# Altium footprint library Motorola Footprints.PcbLib: 408 footprints (part 14 of 26)
Each footprint in its own frame and in the unit in brackets; x right, y up, seen from the top. Pads: shape width x height; smd on the part's side, far side on the other; paste and mask are expansions set on the pad; w line width, h text height; cw(c..) or ccw(c..) is an arc to the next point about the centre after c.
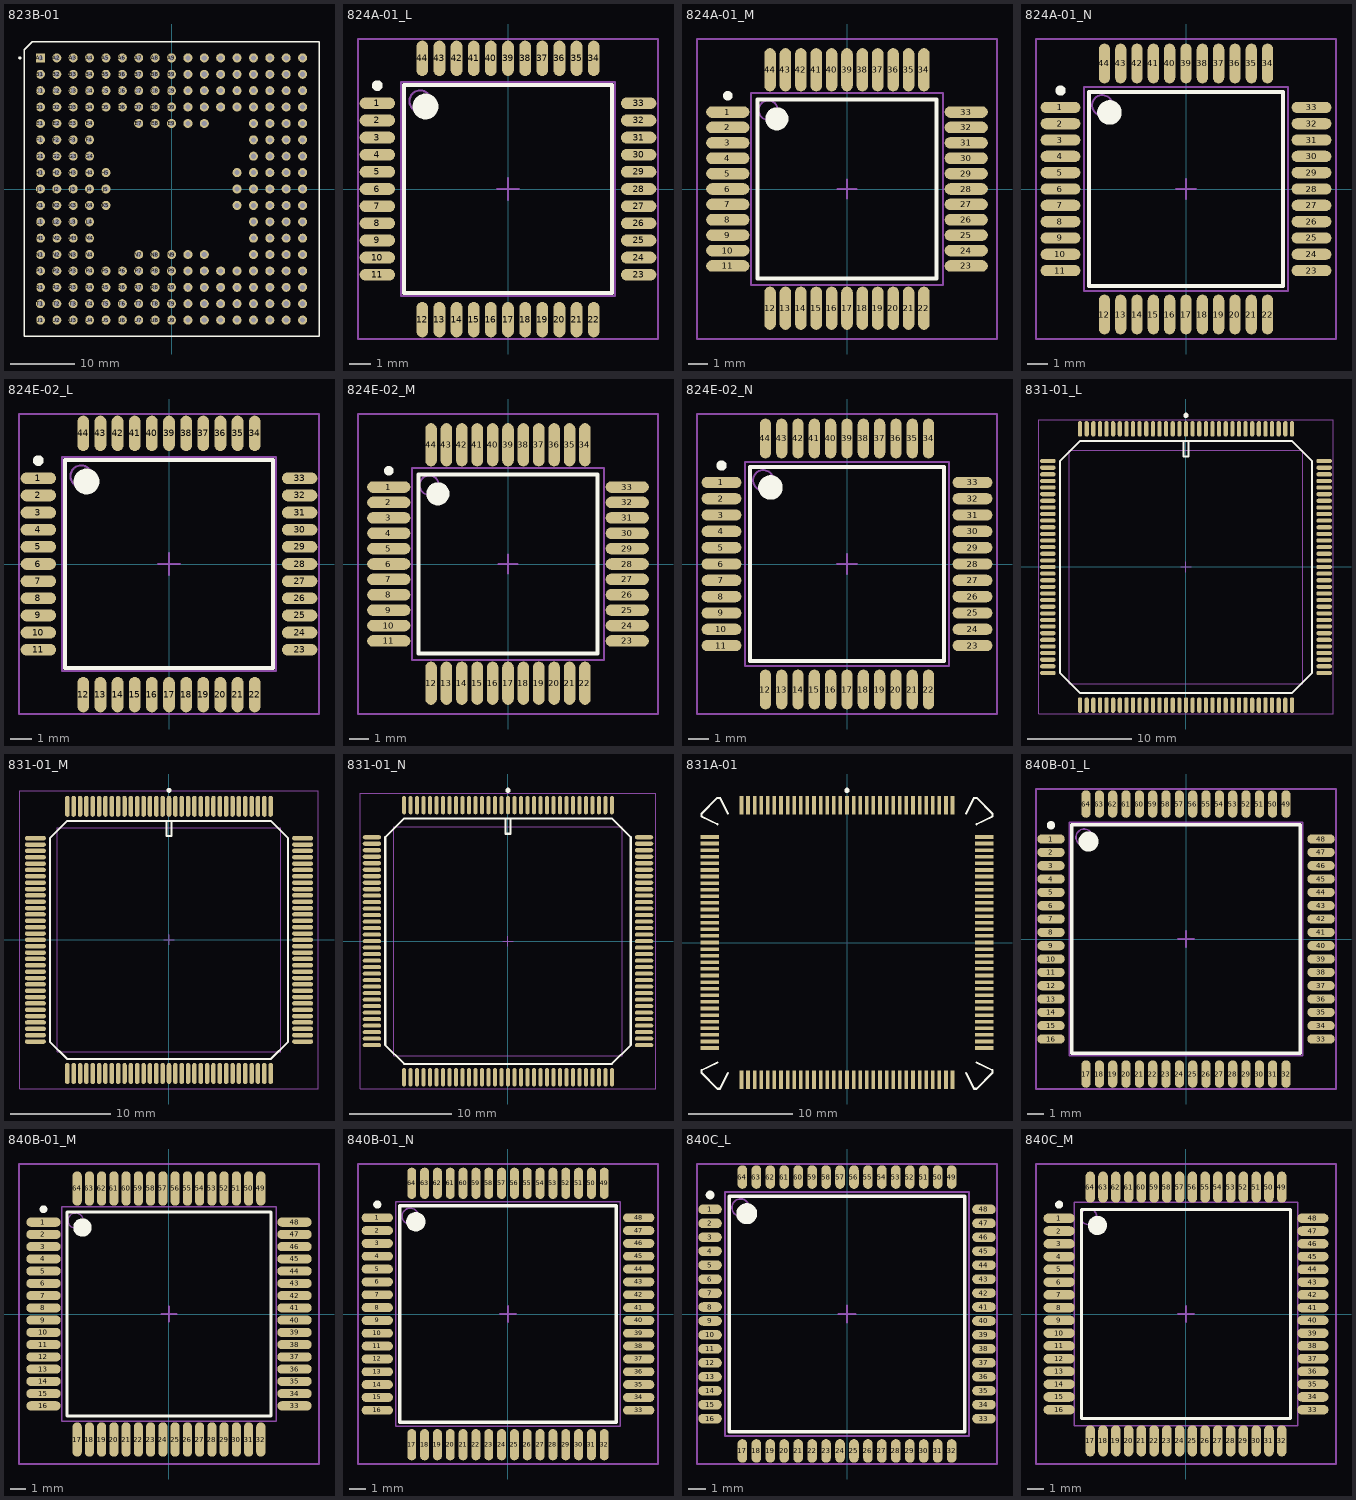
[diagram p13: the footprints below, top view; thin cyan lines are the x and y axes]

## 823B-01 [mm] "224-Pin Pin Grid Array 2.54 mm Pitch"
height 4.5
pads (224):
  rect 1.4x1.4 hole 0.8: A1(-20.32,20.32)
  round 1.4 hole 0.8: A2(-17.78,20.32) A3(-15.24,20.32) A4(-12.7,20.32) A5(-10.16,20.32) A6(-7.62,20.32) A7(-5.08,20.32) A8(-2.54,20.32) A9(0,20.32) A10(2.54,20.32) A11(5.08,20.32) A12(7.62,20.32) A13(10.16,20.32) A14(12.7,20.32) A15(15.24,20.32) A16(17.78,20.32) A17(20.32,20.32) B1(-20.32,17.78) B2(-17.78,17.78) B3(-15.24,17.78) B4(-12.7,17.78) B5(-10.16,17.78) B6(-7.62,17.78) B7(-5.08,17.78) B8(-2.54,17.78) B9(0,17.78) B10(2.54,17.78) B11(5.08,17.78) B12(7.62,17.78) B13(10.16,17.78) B14(12.7,17.78) B15(15.24,17.78) B16(17.78,17.78) B17(20.32,17.78) C1(-20.32,15.24) C2(-17.78,15.24) C3(-15.24,15.24) C4(-12.7,15.24) C5(-10.16,15.24) C6(-7.62,15.24) C7(-5.08,15.24) C8(-2.54,15.24) C9(0,15.24) C10(2.54,15.24) C11(5.08,15.24) C12(7.62,15.24) C13(10.16,15.24) C14(12.7,15.24) C15(15.24,15.24) C16(17.78,15.24) C17(20.32,15.24) D1(-20.32,12.7) D2(-17.78,12.7) D3(-15.24,12.7) D4(-12.7,12.7) D5(-10.16,12.7) D6(-7.62,12.7) D7(-5.08,12.7) D8(-2.54,12.7) D9(0,12.7) D10(2.54,12.7) D11(5.08,12.7) D12(7.62,12.7) D13(10.16,12.7) D14(12.7,12.7) D15(15.24,12.7) D16(17.78,12.7) D17(20.32,12.7) E1(-20.32,10.16) E2(-17.78,10.16) E3(-15.24,10.16) E4(-12.7,10.16) E7(-5.08,10.16) E8(-2.54,10.16) E9(0,10.16) E10(2.54,10.16) E11(5.08,10.16) E14(12.7,10.16) E15(15.24,10.16) E16(17.78,10.16) E17(20.32,10.16) F1(-20.32,7.62) F2(-17.78,7.62) F3(-15.24,7.62) F4(-12.7,7.62) F14(12.7,7.62) F15(15.24,7.62) F16(17.78,7.62) F17(20.32,7.62) G1(-20.32,5.08) G2(-17.78,5.08) G3(-15.24,5.08) G4(-12.7,5.08) G14(12.7,5.08) G15(15.24,5.08) G16(17.78,5.08) G17(20.32,5.08) H1(-20.32,2.54) H2(-17.78,2.54) H3(-15.24,2.54) H4(-12.7,2.54) H5(-10.16,2.54) H13(10.16,2.54) H14(12.7,2.54) H15(15.24,2.54) H16(17.78,2.54) H17(20.32,2.54) J1(-20.32,0) J2(-17.78,0) J3(-15.24,0) J4(-12.7,0) J5(-10.16,0) J13(10.16,0) J14(12.7,0) J15(15.24,0) J16(17.78,0) J17(20.32,0) K1(-20.32,-2.54) K2(-17.78,-2.54) K3(-15.24,-2.54) K4(-12.7,-2.54) K5(-10.16,-2.54) K13(10.16,-2.54) K14(12.7,-2.54) K15(15.24,-2.54) K16(17.78,-2.54) K17(20.32,-2.54) L1(-20.32,-5.08) L2(-17.78,-5.08) L3(-15.24,-5.08) L4(-12.7,-5.08) L14(12.7,-5.08) L15(15.24,-5.08) L16(17.78,-5.08) L17(20.32,-5.08) M1(-20.32,-7.62) M2(-17.78,-7.62) M3(-15.24,-7.62) M4(-12.7,-7.62) M14(12.7,-7.62) M15(15.24,-7.62) M16(17.78,-7.62) M17(20.32,-7.62) N1(-20.32,-10.16) N2(-17.78,-10.16) N3(-15.24,-10.16) N4(-12.7,-10.16) N7(-5.08,-10.16) N8(-2.54,-10.16) N9(0,-10.16) N10(2.54,-10.16) N11(5.08,-10.16) N14(12.7,-10.16) N15(15.24,-10.16) N16(17.78,-10.16) N17(20.32,-10.16) P1(-20.32,-12.7) P2(-17.78,-12.7) P3(-15.24,-12.7) P4(-12.7,-12.7) P5(-10.16,-12.7) P6(-7.62,-12.7) P7(-5.08,-12.7) P8(-2.54,-12.7) P9(0,-12.7) P10(2.54,-12.7) P11(5.08,-12.7) P12(7.62,-12.7) P13(10.16,-12.7) P14(12.7,-12.7) P15(15.24,-12.7) P16(17.78,-12.7) P17(20.32,-12.7) R1(-20.32,-15.24) R2(-17.78,-15.24) R3(-15.24,-15.24) R4(-12.7,-15.24) R5(-10.16,-15.24) R6(-7.62,-15.24) R7(-5.08,-15.24) R8(-2.54,-15.24) R9(0,-15.24) R10(2.54,-15.24) R11(5.08,-15.24) R12(7.62,-15.24) R13(10.16,-15.24) R14(12.7,-15.24) R15(15.24,-15.24) R16(17.78,-15.24) R17(20.32,-15.24) T1(-20.32,-17.78) T2(-17.78,-17.78) T3(-15.24,-17.78) T4(-12.7,-17.78) T5(-10.16,-17.78) T6(-7.62,-17.78) T7(-5.08,-17.78) T8(-2.54,-17.78) T9(0,-17.78) T10(2.54,-17.78) T11(5.08,-17.78) T12(7.62,-17.78) T13(10.16,-17.78) T14(12.7,-17.78) T15(15.24,-17.78) T16(17.78,-17.78) T17(20.32,-17.78) U1(-20.32,-20.32) U2(-17.78,-20.32) U3(-15.24,-20.32) U4(-12.7,-20.32) U5(-10.16,-20.32) U6(-7.62,-20.32) U7(-5.08,-20.32) U8(-2.54,-20.32) U9(0,-20.32) U10(2.54,-20.32) U11(5.08,-20.32) U12(7.62,-20.32) U13(10.16,-20.32) U14(12.7,-20.32) U15(15.24,-20.32) U16(17.78,-20.32) U17(20.32,-20.32)
Top Overlay:
  circle w0.25: c-23.51,20.32 r0.125
  lines w0.2: -22.86,-22.86 -22.86,21.59 -21.59,22.86 22.86,22.86 22.86,-22.86 -22.86,-22.86

## 824A-01_L [mm] "44-Pin Quad Flat Pack 0.8 mm Pitch, IPC High Density"
height 2.45
pads (44):
  oval 1.65x0.55 smd: 1(-6.1,4) 2(-6.1,3.2) 3(-6.1,2.4) 4(-6.1,1.6) 5(-6.1,0.8) 6(-6.1,0) 7(-6.1,-0.8) 8(-6.1,-1.6) 9(-6.1,-2.4) 10(-6.1,-3.2) 11(-6.1,-4) 23(6.1,-4) 24(6.1,-3.2) 25(6.1,-2.4) 26(6.1,-1.6) 27(6.1,-0.8) 28(6.1,0) 29(6.1,0.8) 30(6.1,1.6) 31(6.1,2.4) 32(6.1,3.2) 33(6.1,4)
  oval 0.55x1.65 smd: 12(-4,-6.1) 13(-3.2,-6.1) 14(-2.4,-6.1) 15(-1.6,-6.1) 16(-0.8,-6.1) 17(0,-6.1) 18(0.8,-6.1) 19(1.6,-6.1) 20(2.4,-6.1) 21(3.2,-6.1) 22(4,-6.1) 34(4,6.1) 35(3.2,6.1) 36(2.4,6.1) 37(1.6,6.1) 38(0.8,6.1) 39(0,6.1) 40(-0.8,6.1) 41(-1.6,6.1) 42(-2.4,6.1) 43(-3.2,6.1) 44(-4,6.1)
Top Overlay:
  circle w0.6: c-3.85,3.85 r0.3
  circle w0.25: c-6.1,4.825 r0.125
  lines w0.2: -4.85,-4.85 4.85,-4.85 4.85,4.85 -4.85,4.85 -4.85,-4.85
Mechanical 13:
  circle w0.1: c-4.1,4.1 r0.5
  lines w0.1: -5,-5 5,-5 5,5 -5,5 -5,-5
Mechanical 15:
  lines w0.1: -0.5,0 0.5,0 ; 0,-0.5 0,0.5 ; -7,-7 7,-7 7,7 -7,7 -7,-7
3D body: height 2.45, standoff 0, extent -5,-5 5,5

## 824A-01_M [mm] "44-Pin Quad Flat Pack 0.8 mm Pitch, IPC Low Density"
height 2.45
pads (44):
  oval 2.25x0.6 smd: 1(-6.2,4) 2(-6.2,3.2) 3(-6.2,2.4) 4(-6.2,1.6) 5(-6.2,0.8) 6(-6.2,0) 7(-6.2,-0.8) 8(-6.2,-1.6) 9(-6.2,-2.4) 10(-6.2,-3.2) 11(-6.2,-4) 23(6.2,-4) 24(6.2,-3.2) 25(6.2,-2.4) 26(6.2,-1.6) 27(6.2,-0.8) 28(6.2,0) 29(6.2,0.8) 30(6.2,1.6) 31(6.2,2.4) 32(6.2,3.2) 33(6.2,4)
  oval 0.6x2.25 smd: 12(-4,-6.2) 13(-3.2,-6.2) 14(-2.4,-6.2) 15(-1.6,-6.2) 16(-0.8,-6.2) 17(0,-6.2) 18(0.8,-6.2) 19(1.6,-6.2) 20(2.4,-6.2) 21(3.2,-6.2) 22(4,-6.2) 34(4,6.2) 35(3.2,6.2) 36(2.4,6.2) 37(1.6,6.2) 38(0.8,6.2) 39(0,6.2) 40(-0.8,6.2) 41(-1.6,6.2) 42(-2.4,6.2) 43(-3.2,6.2) 44(-4,6.2)
Top Overlay:
  circle w0.6: c-3.65,3.65 r0.3
  circle w0.25: c-6.2,4.85 r0.125
  lines w0.2: -4.65,-4.65 4.65,-4.65 4.65,4.65 -4.65,4.65 -4.65,-4.65
Mechanical 13:
  circle w0.1: c-4.1,4.1 r0.5
  lines w0.1: -5,-5 5,-5 5,5 -5,5 -5,-5
Mechanical 15:
  lines w0.1: -0.5,0 0.5,0 ; 0,-0.5 0,0.5 ; -7.8,-7.8 7.8,-7.8 7.8,7.8 -7.8,7.8 -7.8,-7.8
3D body: height 2.45, standoff 0, extent -5,-5 5,5

## 824A-01_N [mm] "44-Pin Quad Flat Pack 0.8 mm Pitch, IPC Medium Density"
height 2.45
pads (44):
  oval 1.95x0.55 smd: 1(-6.15,4) 2(-6.15,3.2) 3(-6.15,2.4) 4(-6.15,1.6) 5(-6.15,0.8) 6(-6.15,0) 7(-6.15,-0.8) 8(-6.15,-1.6) 9(-6.15,-2.4) 10(-6.15,-3.2) 11(-6.15,-4) 23(6.15,-4) 24(6.15,-3.2) 25(6.15,-2.4) 26(6.15,-1.6) 27(6.15,-0.8) 28(6.15,0) 29(6.15,0.8) 30(6.15,1.6) 31(6.15,2.4) 32(6.15,3.2) 33(6.15,4)
  oval 0.55x1.95 smd: 12(-4,-6.15) 13(-3.2,-6.15) 14(-2.4,-6.15) 15(-1.6,-6.15) 16(-0.8,-6.15) 17(0,-6.15) 18(0.8,-6.15) 19(1.6,-6.15) 20(2.4,-6.15) 21(3.2,-6.15) 22(4,-6.15) 34(4,6.15) 35(3.2,6.15) 36(2.4,6.15) 37(1.6,6.15) 38(0.8,6.15) 39(0,6.15) 40(-0.8,6.15) 41(-1.6,6.15) 42(-2.4,6.15) 43(-3.2,6.15) 44(-4,6.15)
Top Overlay:
  circle w0.6: c-3.75,3.75 r0.3
  circle w0.25: c-6.15,4.825 r0.125
  lines w0.2: -4.75,-4.75 4.75,-4.75 4.75,4.75 -4.75,4.75 -4.75,-4.75
Mechanical 13:
  circle w0.1: c-4.1,4.1 r0.5
  lines w0.1: -5,-5 5,-5 5,5 -5,5 -5,-5
Mechanical 15:
  lines w0.1: -0.5,0 0.5,0 ; 0,-0.5 0,0.5 ; -7.35,-7.35 7.35,-7.35 7.35,7.35 -7.35,7.35 -7.35,-7.35
3D body: height 2.45, standoff 0, extent -5,-5 5,5

## 824E-02_L [mm] "44-Pin Plastic Quad Flat Pack 0.8 mm Pitch, IPC High Density"
height 2.21
pads (44):
  oval 1.65x0.55 smd: 1(-6.1,4) 2(-6.1,3.2) 3(-6.1,2.4) 4(-6.1,1.6) 5(-6.1,0.8) 6(-6.1,0) 7(-6.1,-0.8) 8(-6.1,-1.6) 9(-6.1,-2.4) 10(-6.1,-3.2) 11(-6.1,-4) 23(6.1,-4) 24(6.1,-3.2) 25(6.1,-2.4) 26(6.1,-1.6) 27(6.1,-0.8) 28(6.1,0) 29(6.1,0.8) 30(6.1,1.6) 31(6.1,2.4) 32(6.1,3.2) 33(6.1,4)
  oval 0.55x1.65 smd: 12(-4,-6.1) 13(-3.2,-6.1) 14(-2.4,-6.1) 15(-1.6,-6.1) 16(-0.8,-6.1) 17(0,-6.1) 18(0.8,-6.1) 19(1.6,-6.1) 20(2.4,-6.1) 21(3.2,-6.1) 22(4,-6.1) 34(4,6.1) 35(3.2,6.1) 36(2.4,6.1) 37(1.6,6.1) 38(0.8,6.1) 39(0,6.1) 40(-0.8,6.1) 41(-1.6,6.1) 42(-2.4,6.1) 43(-3.2,6.1) 44(-4,6.1)
Top Overlay:
  circle w0.6: c-3.85,3.85 r0.3
  circle w0.25: c-6.1,4.825 r0.125
  lines w0.2: -4.85,-4.85 4.85,-4.85 4.85,4.85 -4.85,4.85 -4.85,-4.85
Mechanical 13:
  circle w0.1: c-4.1,4.1 r0.5
  lines w0.1: -5,-5 5,-5 5,5 -5,5 -5,-5
Mechanical 15:
  lines w0.1: -0.5,0 0.5,0 ; 0,-0.5 0,0.5 ; -7,-7 7,-7 7,7 -7,7 -7,-7
3D body: height 2.21, standoff 0, extent -5,-5 5,5

## 824E-02_M [mm] "44-Pin Plastic Quad Flat Pack 0.8 mm Pitch, IPC Low Density"
height 2.21
pads (44):
  oval 2.25x0.6 smd: 1(-6.2,4) 2(-6.2,3.2) 3(-6.2,2.4) 4(-6.2,1.6) 5(-6.2,0.8) 6(-6.2,0) 7(-6.2,-0.8) 8(-6.2,-1.6) 9(-6.2,-2.4) 10(-6.2,-3.2) 11(-6.2,-4) 23(6.2,-4) 24(6.2,-3.2) 25(6.2,-2.4) 26(6.2,-1.6) 27(6.2,-0.8) 28(6.2,0) 29(6.2,0.8) 30(6.2,1.6) 31(6.2,2.4) 32(6.2,3.2) 33(6.2,4)
  oval 0.6x2.25 smd: 12(-4,-6.2) 13(-3.2,-6.2) 14(-2.4,-6.2) 15(-1.6,-6.2) 16(-0.8,-6.2) 17(0,-6.2) 18(0.8,-6.2) 19(1.6,-6.2) 20(2.4,-6.2) 21(3.2,-6.2) 22(4,-6.2) 34(4,6.2) 35(3.2,6.2) 36(2.4,6.2) 37(1.6,6.2) 38(0.8,6.2) 39(0,6.2) 40(-0.8,6.2) 41(-1.6,6.2) 42(-2.4,6.2) 43(-3.2,6.2) 44(-4,6.2)
Top Overlay:
  circle w0.6: c-3.65,3.65 r0.3
  circle w0.25: c-6.2,4.85 r0.125
  lines w0.2: -4.65,-4.65 4.65,-4.65 4.65,4.65 -4.65,4.65 -4.65,-4.65
Mechanical 13:
  circle w0.1: c-4.1,4.1 r0.5
  lines w0.1: -5,-5 5,-5 5,5 -5,5 -5,-5
Mechanical 15:
  lines w0.1: -0.5,0 0.5,0 ; 0,-0.5 0,0.5 ; -7.8,-7.8 7.8,-7.8 7.8,7.8 -7.8,7.8 -7.8,-7.8
3D body: height 2.21, standoff 0, extent -5,-5 5,5

## 824E-02_N [mm] "44-Pin Plastic Quad Flat Pack 0.8 mm Pitch, IPC Medium Density"
height 2.21
pads (44):
  oval 1.95x0.55 smd: 1(-6.15,4) 2(-6.15,3.2) 3(-6.15,2.4) 4(-6.15,1.6) 5(-6.15,0.8) 6(-6.15,0) 7(-6.15,-0.8) 8(-6.15,-1.6) 9(-6.15,-2.4) 10(-6.15,-3.2) 11(-6.15,-4) 23(6.15,-4) 24(6.15,-3.2) 25(6.15,-2.4) 26(6.15,-1.6) 27(6.15,-0.8) 28(6.15,0) 29(6.15,0.8) 30(6.15,1.6) 31(6.15,2.4) 32(6.15,3.2) 33(6.15,4)
  oval 0.55x1.95 smd: 12(-4,-6.15) 13(-3.2,-6.15) 14(-2.4,-6.15) 15(-1.6,-6.15) 16(-0.8,-6.15) 17(0,-6.15) 18(0.8,-6.15) 19(1.6,-6.15) 20(2.4,-6.15) 21(3.2,-6.15) 22(4,-6.15) 34(4,6.15) 35(3.2,6.15) 36(2.4,6.15) 37(1.6,6.15) 38(0.8,6.15) 39(0,6.15) 40(-0.8,6.15) 41(-1.6,6.15) 42(-2.4,6.15) 43(-3.2,6.15) 44(-4,6.15)
Top Overlay:
  circle w0.6: c-3.75,3.75 r0.3
  circle w0.25: c-6.15,4.825 r0.125
  lines w0.2: -4.75,-4.75 4.75,-4.75 4.75,4.75 -4.75,4.75 -4.75,-4.75
Mechanical 13:
  circle w0.1: c-4.1,4.1 r0.5
  lines w0.1: -5,-5 5,-5 5,5 -5,5 -5,-5
Mechanical 15:
  lines w0.1: -0.5,0 0.5,0 ; 0,-0.5 0,0.5 ; -7.35,-7.35 7.35,-7.35 7.35,7.35 -7.35,7.35 -7.35,-7.35
3D body: height 2.21, standoff 0, extent -5,-5 5,5

## 831-01_L [mm] "132-Pin Ceramic Quad Flat Pack 0.635 mm Pitch, IPC High Density"
height 4.4
pads (132):
  oval 0.4x1.5 smd: 1(0,13.25) 2(-0.635,13.25) 3(-1.27,13.25) 4(-1.905,13.25) 5(-2.54,13.25) 6(-3.175,13.25) 7(-3.81,13.25) 8(-4.445,13.25) 9(-5.08,13.25) 10(-5.715,13.25) 11(-6.35,13.25) 12(-6.985,13.25) 13(-7.62,13.25) 14(-8.255,13.25) 15(-8.89,13.25) 16(-9.525,13.25) 17(-10.16,13.25) 51(-10.16,-13.25) 52(-9.525,-13.25) 53(-8.89,-13.25) 54(-8.255,-13.25) 55(-7.62,-13.25) 56(-6.985,-13.25) 57(-6.35,-13.25) 58(-5.715,-13.25) 59(-5.08,-13.25) 60(-4.445,-13.25) 61(-3.81,-13.25) 62(-3.175,-13.25) 63(-2.54,-13.25) 64(-1.905,-13.25) 65(-1.27,-13.25) 66(-0.635,-13.25) 67(0,-13.25) 68(0.635,-13.25) 69(1.27,-13.25) 70(1.905,-13.25) 71(2.54,-13.25) 72(3.175,-13.25) 73(3.81,-13.25) 74(4.445,-13.25) 75(5.08,-13.25) 76(5.715,-13.25) 77(6.35,-13.25) 78(6.985,-13.25) 79(7.62,-13.25) 80(8.255,-13.25) 81(8.89,-13.25) 82(9.525,-13.25) 83(10.16,-13.25) 117(10.16,13.25) 118(9.525,13.25) 119(8.89,13.25) 120(8.255,13.25) 121(7.62,13.25) 122(6.985,13.25) 123(6.35,13.25) 124(5.715,13.25) 125(5.08,13.25) 126(4.445,13.25) 127(3.81,13.25) 128(3.175,13.25) 129(2.54,13.25) 130(1.905,13.25) 131(1.27,13.25) 132(0.635,13.25)
  oval 1.5x0.4 smd: 18(-13.25,10.16) 19(-13.25,9.525) 20(-13.25,8.89) 21(-13.25,8.255) 22(-13.25,7.62) 23(-13.25,6.985) 24(-13.25,6.35) 25(-13.25,5.715) 26(-13.25,5.08) 27(-13.25,4.445) 28(-13.25,3.81) 29(-13.25,3.175) 30(-13.25,2.54) 31(-13.25,1.905) 32(-13.25,1.27) 33(-13.25,0.635) 34(-13.25,0) 35(-13.25,-0.635) 36(-13.25,-1.27) 37(-13.25,-1.905) 38(-13.25,-2.54) 39(-13.25,-3.175) 40(-13.25,-3.81) 41(-13.25,-4.445) 42(-13.25,-5.08) 43(-13.25,-5.715) 44(-13.25,-6.35) 45(-13.25,-6.985) 46(-13.25,-7.62) 47(-13.25,-8.255) 48(-13.25,-8.89) 49(-13.25,-9.525) 50(-13.25,-10.16) 84(13.25,-10.16) 85(13.25,-9.525) 86(13.25,-8.89) 87(13.25,-8.255) 88(13.25,-7.62) 89(13.25,-6.985) 90(13.25,-6.35) 91(13.25,-5.715) 92(13.25,-5.08) 93(13.25,-4.445) 94(13.25,-3.81) 95(13.25,-3.175) 96(13.25,-2.54) 97(13.25,-1.905) 98(13.25,-1.27) 99(13.25,-0.635) 100(13.25,0) 101(13.25,0.635) 102(13.25,1.27) 103(13.25,1.905) 104(13.25,2.54) 105(13.25,3.175) 106(13.25,3.81) 107(13.25,4.445) 108(13.25,5.08) 109(13.25,5.715) 110(13.25,6.35) 111(13.25,6.985) 112(13.25,7.62) 113(13.25,8.255) 114(13.25,8.89) 115(13.25,9.525) 116(13.25,10.16)
Top Overlay:
  circle w0.25: c0,14.55 r0.125
  lines w0.2: -0.25,12.1 -0.25,10.6 0.25,10.6 0.25,12.1 ; -12.1,-10.16 -10.16,-12.1 10.16,-12.1 12.1,-10.16 12.1,10.16 10.16,12.1 -10.16,12.1 -12.1,10.16 -12.1,-10.16
Mechanical 13:
  lines w0.1: -11.18,-11.18 11.18,-11.18 11.18,11.18 -11.18,11.18 -11.18,-11.18
Mechanical 15:
  lines w0.1: -0.5,0 0.5,0 ; 0,-0.5 0,0.5 ; -14.1,-14.1 14.1,-14.1 14.1,14.1 -14.1,14.1 -14.1,-14.1
3D body: height 4.4, standoff 0, extent -11.18,-11.18 11.18,11.18

## 831-01_M [mm] "132-Pin Ceramic Quad Flat Pack 0.635 mm Pitch, IPC Low Density"
height 4.4
pads (132):
  oval 0.45x2.1 smd: 1(0,13.35) 2(-0.635,13.35) 3(-1.27,13.35) 4(-1.905,13.35) 5(-2.54,13.35) 6(-3.175,13.35) 7(-3.81,13.35) 8(-4.445,13.35) 9(-5.08,13.35) 10(-5.715,13.35) 11(-6.35,13.35) 12(-6.985,13.35) 13(-7.62,13.35) 14(-8.255,13.35) 15(-8.89,13.35) 16(-9.525,13.35) 17(-10.16,13.35) 51(-10.16,-13.35) 52(-9.525,-13.35) 53(-8.89,-13.35) 54(-8.255,-13.35) 55(-7.62,-13.35) 56(-6.985,-13.35) 57(-6.35,-13.35) 58(-5.715,-13.35) 59(-5.08,-13.35) 60(-4.445,-13.35) 61(-3.81,-13.35) 62(-3.175,-13.35) 63(-2.54,-13.35) 64(-1.905,-13.35) 65(-1.27,-13.35) 66(-0.635,-13.35) 67(0,-13.35) 68(0.635,-13.35) 69(1.27,-13.35) 70(1.905,-13.35) 71(2.54,-13.35) 72(3.175,-13.35) 73(3.81,-13.35) 74(4.445,-13.35) 75(5.08,-13.35) 76(5.715,-13.35) 77(6.35,-13.35) 78(6.985,-13.35) 79(7.62,-13.35) 80(8.255,-13.35) 81(8.89,-13.35) 82(9.525,-13.35) 83(10.16,-13.35) 117(10.16,13.35) 118(9.525,13.35) 119(8.89,13.35) 120(8.255,13.35) 121(7.62,13.35) 122(6.985,13.35) 123(6.35,13.35) 124(5.715,13.35) 125(5.08,13.35) 126(4.445,13.35) 127(3.81,13.35) 128(3.175,13.35) 129(2.54,13.35) 130(1.905,13.35) 131(1.27,13.35) 132(0.635,13.35)
  oval 2.1x0.45 smd: 18(-13.35,10.16) 19(-13.35,9.525) 20(-13.35,8.89) 21(-13.35,8.255) 22(-13.35,7.62) 23(-13.35,6.985) 24(-13.35,6.35) 25(-13.35,5.715) 26(-13.35,5.08) 27(-13.35,4.445) 28(-13.35,3.81) 29(-13.35,3.175) 30(-13.35,2.54) 31(-13.35,1.905) 32(-13.35,1.27) 33(-13.35,0.635) 34(-13.35,0) 35(-13.35,-0.635) 36(-13.35,-1.27) 37(-13.35,-1.905) 38(-13.35,-2.54) 39(-13.35,-3.175) 40(-13.35,-3.81) 41(-13.35,-4.445) 42(-13.35,-5.08) 43(-13.35,-5.715) 44(-13.35,-6.35) 45(-13.35,-6.985) 46(-13.35,-7.62) 47(-13.35,-8.255) 48(-13.35,-8.89) 49(-13.35,-9.525) 50(-13.35,-10.16) 84(13.35,-10.16) 85(13.35,-9.525) 86(13.35,-8.89) 87(13.35,-8.255) 88(13.35,-7.62) 89(13.35,-6.985) 90(13.35,-6.35) 91(13.35,-5.715) 92(13.35,-5.08) 93(13.35,-4.445) 94(13.35,-3.81) 95(13.35,-3.175) 96(13.35,-2.54) 97(13.35,-1.905) 98(13.35,-1.27) 99(13.35,-0.635) 100(13.35,0) 101(13.35,0.635) 102(13.35,1.27) 103(13.35,1.905) 104(13.35,2.54) 105(13.35,3.175) 106(13.35,3.81) 107(13.35,4.445) 108(13.35,5.08) 109(13.35,5.715) 110(13.35,6.35) 111(13.35,6.985) 112(13.35,7.62) 113(13.35,8.255) 114(13.35,8.89) 115(13.35,9.525) 116(13.35,10.16)
Top Overlay:
  circle w0.25: c0,14.95 r0.125
  lines w0.2: -0.25,11.9 -0.25,10.4 0.25,10.4 0.25,11.9 ; -11.9,-10.16 -10.16,-11.9 10.16,-11.9 11.9,-10.16 11.9,10.16 10.16,11.9 -10.16,11.9 -11.9,10.16 -11.9,-10.16
Mechanical 13:
  lines w0.1: -11.18,-11.18 11.18,-11.18 11.18,11.18 -11.18,11.18 -11.18,-11.18
Mechanical 15:
  lines w0.1: -0.5,0 0.5,0 ; 0,-0.5 0,0.5 ; -14.9,-14.9 14.9,-14.9 14.9,14.9 -14.9,14.9 -14.9,-14.9
3D body: height 4.4, standoff 0, extent -11.18,-11.18 11.18,11.18

## 831-01_N [mm] "132-Pin Ceramic Quad Flat Pack 0.635 mm Pitch, IPC Medium Density"
height 4.4
pads (132):
  oval 0.4x1.8 smd: 1(0,13.3) 2(-0.635,13.3) 3(-1.27,13.3) 4(-1.905,13.3) 5(-2.54,13.3) 6(-3.175,13.3) 7(-3.81,13.3) 8(-4.445,13.3) 9(-5.08,13.3) 10(-5.715,13.3) 11(-6.35,13.3) 12(-6.985,13.3) 13(-7.62,13.3) 14(-8.255,13.3) 15(-8.89,13.3) 16(-9.525,13.3) 17(-10.16,13.3) 51(-10.16,-13.3) 52(-9.525,-13.3) 53(-8.89,-13.3) 54(-8.255,-13.3) 55(-7.62,-13.3) 56(-6.985,-13.3) 57(-6.35,-13.3) 58(-5.715,-13.3) 59(-5.08,-13.3) 60(-4.445,-13.3) 61(-3.81,-13.3) 62(-3.175,-13.3) 63(-2.54,-13.3) 64(-1.905,-13.3) 65(-1.27,-13.3) 66(-0.635,-13.3) 67(0,-13.3) 68(0.635,-13.3) 69(1.27,-13.3) 70(1.905,-13.3) 71(2.54,-13.3) 72(3.175,-13.3) 73(3.81,-13.3) 74(4.445,-13.3) 75(5.08,-13.3) 76(5.715,-13.3) 77(6.35,-13.3) 78(6.985,-13.3) 79(7.62,-13.3) 80(8.255,-13.3) 81(8.89,-13.3) 82(9.525,-13.3) 83(10.16,-13.3) 117(10.16,13.3) 118(9.525,13.3) 119(8.89,13.3) 120(8.255,13.3) 121(7.62,13.3) 122(6.985,13.3) 123(6.35,13.3) 124(5.715,13.3) 125(5.08,13.3) 126(4.445,13.3) 127(3.81,13.3) 128(3.175,13.3) 129(2.54,13.3) 130(1.905,13.3) 131(1.27,13.3) 132(0.635,13.3)
  oval 1.8x0.4 smd: 18(-13.3,10.16) 19(-13.3,9.525) 20(-13.3,8.89) 21(-13.3,8.255) 22(-13.3,7.62) 23(-13.3,6.985) 24(-13.3,6.35) 25(-13.3,5.715) 26(-13.3,5.08) 27(-13.3,4.445) 28(-13.3,3.81) 29(-13.3,3.175) 30(-13.3,2.54) 31(-13.3,1.905) 32(-13.3,1.27) 33(-13.3,0.635) 34(-13.3,0) 35(-13.3,-0.635) 36(-13.3,-1.27) 37(-13.3,-1.905) 38(-13.3,-2.54) 39(-13.3,-3.175) 40(-13.3,-3.81) 41(-13.3,-4.445) 42(-13.3,-5.08) 43(-13.3,-5.715) 44(-13.3,-6.35) 45(-13.3,-6.985) 46(-13.3,-7.62) 47(-13.3,-8.255) 48(-13.3,-8.89) 49(-13.3,-9.525) 50(-13.3,-10.16) 84(13.3,-10.16) 85(13.3,-9.525) 86(13.3,-8.89) 87(13.3,-8.255) 88(13.3,-7.62) 89(13.3,-6.985) 90(13.3,-6.35) 91(13.3,-5.715) 92(13.3,-5.08) 93(13.3,-4.445) 94(13.3,-3.81) 95(13.3,-3.175) 96(13.3,-2.54) 97(13.3,-1.905) 98(13.3,-1.27) 99(13.3,-0.635) 100(13.3,0) 101(13.3,0.635) 102(13.3,1.27) 103(13.3,1.905) 104(13.3,2.54) 105(13.3,3.175) 106(13.3,3.81) 107(13.3,4.445) 108(13.3,5.08) 109(13.3,5.715) 110(13.3,6.35) 111(13.3,6.985) 112(13.3,7.62) 113(13.3,8.255) 114(13.3,8.89) 115(13.3,9.525) 116(13.3,10.16)
Top Overlay:
  circle w0.25: c0,14.75 r0.125
  lines w0.2: -0.25,12 -0.25,10.5 0.25,10.5 0.25,12 ; -12,-10.16 -10.16,-12 10.16,-12 12,-10.16 12,10.16 10.16,12 -10.16,12 -12,10.16 -12,-10.16
Mechanical 13:
  lines w0.1: -11.18,-11.18 11.18,-11.18 11.18,11.18 -11.18,11.18 -11.18,-11.18
Mechanical 15:
  lines w0.1: -0.5,0 0.5,0 ; 0,-0.5 0,0.5 ; -14.45,-14.45 14.45,-14.45 14.45,14.45 -14.45,14.45 -14.45,-14.45
3D body: height 4.4, standoff 0, extent -11.18,-11.18 11.18,11.18

## 831A-01 [mm] "PQFP; 132 Leads; Body 24 x 24 mm; Pitch 0.635 mm"
height 4.57
pads (132):
  rect 0.35x1.8 smd: 1(0,13.2) 2(-0.635,13.2) 3(-1.27,13.2) 4(-1.905,13.2) 5(-2.54,13.2) 6(-3.175,13.2) 7(-3.81,13.2) 8(-4.445,13.2) 9(-5.08,13.2) 10(-5.715,13.2) 11(-6.35,13.2) 12(-6.985,13.2) 13(-7.62,13.2) 14(-8.255,13.2) 15(-8.89,13.2) 16(-9.525,13.2) 17(-10.16,13.2) 51(-10.16,-13.2) 52(-9.525,-13.2) 53(-8.89,-13.2) 54(-8.255,-13.2) 55(-7.62,-13.2) 56(-6.985,-13.2) 57(-6.35,-13.2) 58(-5.715,-13.2) 59(-5.08,-13.2) 60(-4.445,-13.2) 61(-3.81,-13.2) 62(-3.175,-13.2) 63(-2.54,-13.2) 64(-1.905,-13.2) 65(-1.27,-13.2) 66(-0.635,-13.2) 67(0,-13.2) 68(0.635,-13.2) 69(1.27,-13.2) 70(1.905,-13.2) 71(2.54,-13.2) 72(3.175,-13.2) 73(3.81,-13.2) 74(4.445,-13.2) 75(5.08,-13.2) 76(5.715,-13.2) 77(6.35,-13.2) 78(6.985,-13.2) 79(7.62,-13.2) 80(8.255,-13.2) 81(8.89,-13.2) 82(9.525,-13.2) 83(10.16,-13.2) 117(10.16,13.2) 118(9.525,13.2) 119(8.89,13.2) 120(8.255,13.2) 121(7.62,13.2) 122(6.985,13.2) 123(6.35,13.2) 124(5.715,13.2) 125(5.08,13.2) 126(4.445,13.2) 127(3.81,13.2) 128(3.175,13.2) 129(2.54,13.2) 130(1.905,13.2) 131(1.27,13.2) 132(0.635,13.2)
  rect 1.8x0.35 smd: 18(-13.2,10.16) 19(-13.2,9.525) 20(-13.2,8.89) 21(-13.2,8.255) 22(-13.2,7.62) 23(-13.2,6.985) 24(-13.2,6.35) 25(-13.2,5.715) 26(-13.2,5.08) 27(-13.2,4.445) 28(-13.2,3.81) 29(-13.2,3.175) 30(-13.2,2.54) 31(-13.2,1.905) 32(-13.2,1.27) 33(-13.2,0.635) 34(-13.2,0) 35(-13.2,-0.635) 36(-13.2,-1.27) 37(-13.2,-1.905) 38(-13.2,-2.54) 39(-13.2,-3.175) 40(-13.2,-3.81) 41(-13.2,-4.445) 42(-13.2,-5.08) 43(-13.2,-5.715) 44(-13.2,-6.35) 45(-13.2,-6.985) 46(-13.2,-7.62) 47(-13.2,-8.255) 48(-13.2,-8.89) 49(-13.2,-9.525) 50(-13.2,-10.16) 84(13.2,-10.16) 85(13.2,-9.525) 86(13.2,-8.89) 87(13.2,-8.255) 88(13.2,-7.62) 89(13.2,-6.985) 90(13.2,-6.35) 91(13.2,-5.715) 92(13.2,-5.08) 93(13.2,-4.445) 94(13.2,-3.81) 95(13.2,-3.175) 96(13.2,-2.54) 97(13.2,-1.905) 98(13.2,-1.27) 99(13.2,-0.635) 100(13.2,0) 101(13.2,0.635) 102(13.2,1.27) 103(13.2,1.905) 104(13.2,2.54) 105(13.2,3.175) 106(13.2,3.81) 107(13.2,4.445) 108(13.2,5.08) 109(13.2,5.715) 110(13.2,6.35) 111(13.2,6.985) 112(13.2,7.62) 113(13.2,8.255) 114(13.2,8.89) 115(13.2,9.525) 116(13.2,10.16)
Top Overlay:
  circle w0.25: c0,14.65 r0.125
  lines w0.2: -14,-12.297 -12.476,-11.535 ; -14,-12.279 -14,-12.551 -12.476,-14.075 -12.222,-14.075 -11.46,-12.551 ; -14,12.129 -14,12.401 -12.476,13.925 -12.222,13.925 -11.46,12.401 ; -14,12.147 -12.476,11.385 ; 11.46,-12.551 12.222,-14.075 12.476,-14.075 14,-12.551 14,-12.279 ; 11.46,12.401 12.222,13.925 12.476,13.925 14,12.401 14,12.129 ; 12.476,-11.535 14,-12.297 ; 12.476,11.385 14,12.147

## 840B-01_L [mm] "64-Pin Quad Flat Pack 0.8 mm Pitch, IPC High Density"
height 2.45
pads (64):
  oval 1.65x0.55 smd: 1(-8.1,6) 2(-8.1,5.2) 3(-8.1,4.4) 4(-8.1,3.6) 5(-8.1,2.8) 6(-8.1,2) 7(-8.1,1.2) 8(-8.1,0.4) 9(-8.1,-0.4) 10(-8.1,-1.2) 11(-8.1,-2) 12(-8.1,-2.8) 13(-8.1,-3.6) 14(-8.1,-4.4) 15(-8.1,-5.2) 16(-8.1,-6) 33(8.1,-6) 34(8.1,-5.2) 35(8.1,-4.4) 36(8.1,-3.6) 37(8.1,-2.8) 38(8.1,-2) 39(8.1,-1.2) 40(8.1,-0.4) 41(8.1,0.4) 42(8.1,1.2) 43(8.1,2) 44(8.1,2.8) 45(8.1,3.6) 46(8.1,4.4) 47(8.1,5.2) 48(8.1,6)
  oval 0.55x1.65 smd: 17(-6,-8.1) 18(-5.2,-8.1) 19(-4.4,-8.1) 20(-3.6,-8.1) 21(-2.8,-8.1) 22(-2,-8.1) 23(-1.2,-8.1) 24(-0.4,-8.1) 25(0.4,-8.1) 26(1.2,-8.1) 27(2,-8.1) 28(2.8,-8.1) 29(3.6,-8.1) 30(4.4,-8.1) 31(5.2,-8.1) 32(6,-8.1) 49(6,8.1) 50(5.2,8.1) 51(4.4,8.1) 52(3.6,8.1) 53(2.8,8.1) 54(2,8.1) 55(1.2,8.1) 56(0.4,8.1) 57(-0.4,8.1) 58(-1.2,8.1) 59(-2,8.1) 60(-2.8,8.1) 61(-3.6,8.1) 62(-4.4,8.1) 63(-5.2,8.1) 64(-6,8.1)
Top Overlay:
  circle w0.6: c-5.85,5.85 r0.3
  circle w0.25: c-8.1,6.825 r0.125
  lines w0.2: -6.85,-6.85 6.85,-6.85 6.85,6.85 -6.85,6.85 -6.85,-6.85
Mechanical 13:
  circle w0.1: c-6.1,6.1 r0.5
  lines w0.1: -7,-7 7,-7 7,7 -7,7 -7,-7
Mechanical 15:
  lines w0.1: -0.5,0 0.5,0 ; 0,-0.5 0,0.5 ; -9,-9 9,-9 9,9 -9,9 -9,-9
3D body: height 2.45, standoff 0, extent -7,-7 7,7

## 840B-01_M [mm] "64-Pin Quad Flat Pack 0.8 mm Pitch, IPC Low Density"
height 2.45
pads (64):
  oval 2.25x0.6 smd: 1(-8.2,6) 2(-8.2,5.2) 3(-8.2,4.4) 4(-8.2,3.6) 5(-8.2,2.8) 6(-8.2,2) 7(-8.2,1.2) 8(-8.2,0.4) 9(-8.2,-0.4) 10(-8.2,-1.2) 11(-8.2,-2) 12(-8.2,-2.8) 13(-8.2,-3.6) 14(-8.2,-4.4) 15(-8.2,-5.2) 16(-8.2,-6) 33(8.2,-6) 34(8.2,-5.2) 35(8.2,-4.4) 36(8.2,-3.6) 37(8.2,-2.8) 38(8.2,-2) 39(8.2,-1.2) 40(8.2,-0.4) 41(8.2,0.4) 42(8.2,1.2) 43(8.2,2) 44(8.2,2.8) 45(8.2,3.6) 46(8.2,4.4) 47(8.2,5.2) 48(8.2,6)
  oval 0.6x2.25 smd: 17(-6,-8.2) 18(-5.2,-8.2) 19(-4.4,-8.2) 20(-3.6,-8.2) 21(-2.8,-8.2) 22(-2,-8.2) 23(-1.2,-8.2) 24(-0.4,-8.2) 25(0.4,-8.2) 26(1.2,-8.2) 27(2,-8.2) 28(2.8,-8.2) 29(3.6,-8.2) 30(4.4,-8.2) 31(5.2,-8.2) 32(6,-8.2) 49(6,8.2) 50(5.2,8.2) 51(4.4,8.2) 52(3.6,8.2) 53(2.8,8.2) 54(2,8.2) 55(1.2,8.2) 56(0.4,8.2) 57(-0.4,8.2) 58(-1.2,8.2) 59(-2,8.2) 60(-2.8,8.2) 61(-3.6,8.2) 62(-4.4,8.2) 63(-5.2,8.2) 64(-6,8.2)
Top Overlay:
  circle w0.6: c-5.65,5.65 r0.3
  circle w0.25: c-8.2,6.85 r0.125
  lines w0.2: -6.65,-6.65 6.65,-6.65 6.65,6.65 -6.65,6.65 -6.65,-6.65
Mechanical 13:
  circle w0.1: c-6.1,6.1 r0.5
  lines w0.1: -7,-7 7,-7 7,7 -7,7 -7,-7
Mechanical 15:
  lines w0.1: -0.5,0 0.5,0 ; 0,-0.5 0,0.5 ; -9.8,-9.8 9.8,-9.8 9.8,9.8 -9.8,9.8 -9.8,-9.8
3D body: height 2.45, standoff 0, extent -7,-7 7,7

## 840B-01_N [mm] "64-Pin Quad Flat Pack 0.8 mm Pitch, IPC Medium Density"
height 2.45
pads (64):
  oval 1.95x0.55 smd: 1(-8.15,6) 2(-8.15,5.2) 3(-8.15,4.4) 4(-8.15,3.6) 5(-8.15,2.8) 6(-8.15,2) 7(-8.15,1.2) 8(-8.15,0.4) 9(-8.15,-0.4) 10(-8.15,-1.2) 11(-8.15,-2) 12(-8.15,-2.8) 13(-8.15,-3.6) 14(-8.15,-4.4) 15(-8.15,-5.2) 16(-8.15,-6) 33(8.15,-6) 34(8.15,-5.2) 35(8.15,-4.4) 36(8.15,-3.6) 37(8.15,-2.8) 38(8.15,-2) 39(8.15,-1.2) 40(8.15,-0.4) 41(8.15,0.4) 42(8.15,1.2) 43(8.15,2) 44(8.15,2.8) 45(8.15,3.6) 46(8.15,4.4) 47(8.15,5.2) 48(8.15,6)
  oval 0.55x1.95 smd: 17(-6,-8.15) 18(-5.2,-8.15) 19(-4.4,-8.15) 20(-3.6,-8.15) 21(-2.8,-8.15) 22(-2,-8.15) 23(-1.2,-8.15) 24(-0.4,-8.15) 25(0.4,-8.15) 26(1.2,-8.15) 27(2,-8.15) 28(2.8,-8.15) 29(3.6,-8.15) 30(4.4,-8.15) 31(5.2,-8.15) 32(6,-8.15) 49(6,8.15) 50(5.2,8.15) 51(4.4,8.15) 52(3.6,8.15) 53(2.8,8.15) 54(2,8.15) 55(1.2,8.15) 56(0.4,8.15) 57(-0.4,8.15) 58(-1.2,8.15) 59(-2,8.15) 60(-2.8,8.15) 61(-3.6,8.15) 62(-4.4,8.15) 63(-5.2,8.15) 64(-6,8.15)
Top Overlay:
  circle w0.6: c-5.75,5.75 r0.3
  circle w0.25: c-8.15,6.825 r0.125
  lines w0.2: -6.75,-6.75 6.75,-6.75 6.75,6.75 -6.75,6.75 -6.75,-6.75
Mechanical 13:
  circle w0.1: c-6.1,6.1 r0.5
  lines w0.1: -7,-7 7,-7 7,7 -7,7 -7,-7
Mechanical 15:
  lines w0.1: -0.5,0 0.5,0 ; 0,-0.5 0,0.5 ; -9.35,-9.35 9.35,-9.35 9.35,9.35 -9.35,9.35 -9.35,-9.35
3D body: height 2.45, standoff 0, extent -7,-7 7,7

## 840C_L [mm] "64-Pin Quad Flat Pack 0.8 mm Pitch, IPC High Density"
height 2.46
pads (64):
  oval 1.35x0.55 smd: 1(-7.85,6) 2(-7.85,5.2) 3(-7.85,4.4) 4(-7.85,3.6) 5(-7.85,2.8) 6(-7.85,2) 7(-7.85,1.2) 8(-7.85,0.4) 9(-7.85,-0.4) 10(-7.85,-1.2) 11(-7.85,-2) 12(-7.85,-2.8) 13(-7.85,-3.6) 14(-7.85,-4.4) 15(-7.85,-5.2) 16(-7.85,-6) 33(7.85,-6) 34(7.85,-5.2) 35(7.85,-4.4) 36(7.85,-3.6) 37(7.85,-2.8) 38(7.85,-2) 39(7.85,-1.2) 40(7.85,-0.4) 41(7.85,0.4) 42(7.85,1.2) 43(7.85,2) 44(7.85,2.8) 45(7.85,3.6) 46(7.85,4.4) 47(7.85,5.2) 48(7.85,6)
  oval 0.55x1.35 smd: 17(-6,-7.85) 18(-5.2,-7.85) 19(-4.4,-7.85) 20(-3.6,-7.85) 21(-2.8,-7.85) 22(-2,-7.85) 23(-1.2,-7.85) 24(-0.4,-7.85) 25(0.4,-7.85) 26(1.2,-7.85) 27(2,-7.85) 28(2.8,-7.85) 29(3.6,-7.85) 30(4.4,-7.85) 31(5.2,-7.85) 32(6,-7.85) 49(6,7.85) 50(5.2,7.85) 51(4.4,7.85) 52(3.6,7.85) 53(2.8,7.85) 54(2,7.85) 55(1.2,7.85) 56(0.4,7.85) 57(-0.4,7.85) 58(-1.2,7.85) 59(-2,7.85) 60(-2.8,7.85) 61(-3.6,7.85) 62(-4.4,7.85) 63(-5.2,7.85) 64(-6,7.85)
Top Overlay:
  circle w0.6: c-5.75,5.75 r0.3
  circle w0.25: c-7.85,6.825 r0.125
  lines w0.2: -6.75,-6.75 6.75,-6.75 6.75,6.75 -6.75,6.75 -6.75,-6.75
Mechanical 13:
  circle w0.1: c-6.1,6.1 r0.5
  lines w0.1: -7,-7 7,-7 7,7 -7,7 -7,-7
Mechanical 15:
  lines w0.1: -0.5,0 0.5,0 ; 0,-0.5 0,0.5 ; -8.6,-8.6 8.6,-8.6 8.6,8.6 -8.6,8.6 -8.6,-8.6
3D body: height 2.46, standoff 0, extent -7,-7 7,7

## 840C_M [mm] "64-Pin Quad Flat Pack 0.8 mm Pitch, IPC Low Density"
height 2.46
pads (64):
  oval 1.95x0.6 smd: 1(-7.95,6) 2(-7.95,5.2) 3(-7.95,4.4) 4(-7.95,3.6) 5(-7.95,2.8) 6(-7.95,2) 7(-7.95,1.2) 8(-7.95,0.4) 9(-7.95,-0.4) 10(-7.95,-1.2) 11(-7.95,-2) 12(-7.95,-2.8) 13(-7.95,-3.6) 14(-7.95,-4.4) 15(-7.95,-5.2) 16(-7.95,-6) 33(7.95,-6) 34(7.95,-5.2) 35(7.95,-4.4) 36(7.95,-3.6) 37(7.95,-2.8) 38(7.95,-2) 39(7.95,-1.2) 40(7.95,-0.4) 41(7.95,0.4) 42(7.95,1.2) 43(7.95,2) 44(7.95,2.8) 45(7.95,3.6) 46(7.95,4.4) 47(7.95,5.2) 48(7.95,6)
  oval 0.6x1.95 smd: 17(-6,-7.95) 18(-5.2,-7.95) 19(-4.4,-7.95) 20(-3.6,-7.95) 21(-2.8,-7.95) 22(-2,-7.95) 23(-1.2,-7.95) 24(-0.4,-7.95) 25(0.4,-7.95) 26(1.2,-7.95) 27(2,-7.95) 28(2.8,-7.95) 29(3.6,-7.95) 30(4.4,-7.95) 31(5.2,-7.95) 32(6,-7.95) 49(6,7.95) 50(5.2,7.95) 51(4.4,7.95) 52(3.6,7.95) 53(2.8,7.95) 54(2,7.95) 55(1.2,7.95) 56(0.4,7.95) 57(-0.4,7.95) 58(-1.2,7.95) 59(-2,7.95) 60(-2.8,7.95) 61(-3.6,7.95) 62(-4.4,7.95) 63(-5.2,7.95) 64(-6,7.95)
Top Overlay:
  circle w0.6: c-5.55,5.55 r0.3
  circle w0.25: c-7.95,6.85 r0.125
  lines w0.2: -6.55,-6.55 6.55,-6.55 6.55,6.55 -6.55,6.55 -6.55,-6.55
Mechanical 13:
  circle w0.1: c-6.1,6.1 r0.5
  lines w0.1: -7,-7 7,-7 7,7 -7,7 -7,-7
Mechanical 15:
  lines w0.1: -0.5,0 0.5,0 ; 0,-0.5 0,0.5 ; -9.4,-9.4 9.4,-9.4 9.4,9.4 -9.4,9.4 -9.4,-9.4
3D body: height 2.46, standoff 0, extent -7,-7 7,7